# Altium footprint library SN74AVC20T245DGV.PcbLib: 3 footprints
Each footprint in its own frame and in the unit in brackets; x right, y up, seen from the top. Pads: shape width x height; smd on the part's side, far side on the other; paste and mask are expansions set on the pad; w line width, h text height; cw(c..) or ccw(c..) is an arc to the next point about the centre after c.
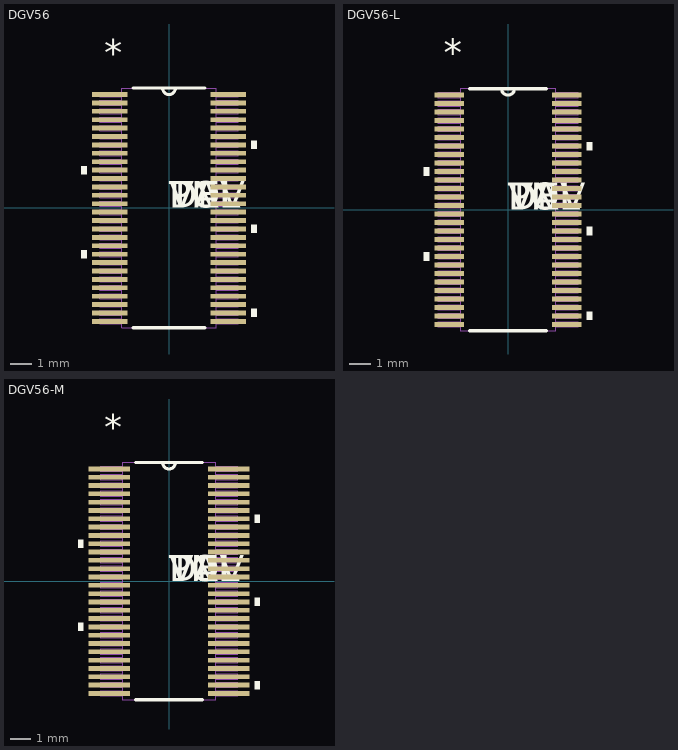
[diagram p0: the footprints below, top view; thin cyan lines are the x and y axes]

## DGV56 [mil]
pads (56):
  rect 66x9 smd: 1(-111,212.6) 2(-111,196.85) 3(-111,181.1) 4(-111,165.35) 5(-111,149.61) 6(-111,133.86) 7(-111,118.11) 8(-111,102.36) 9(-111,86.61) 10(-111,70.87) 11(-111,55.12) 12(-111,39.37) 13(-111,23.62) 14(-111,7.87) 15(-111,-7.87) 16(-111,-23.62) 17(-111,-39.37) 18(-111,-55.12) 19(-111,-70.87) 20(-111,-86.61) 21(-111,-102.36) 22(-111,-118.11) 23(-111,-133.86) 24(-111,-149.61) 25(-111,-165.35) 26(-111,-181.1) 27(-111,-196.85) 28(-111,-212.6) 29(111,-212.6) 30(111,-196.85) 31(111,-181.1) 32(111,-165.35) 33(111,-149.61) 34(111,-133.86) 35(111,-118.11) 36(111,-102.36) 37(111,-86.61) 38(111,-70.87) 39(111,-55.12) 40(111,-39.37) 41(111,-23.62) 42(111,-7.87) 43(111,7.87) 44(111,23.62) 45(111,39.37) 46(111,55.12) 47(111,70.87) 48(111,86.61) 49(111,102.36) 50(111,118.11) 51(111,133.86) 52(111,149.61) 53(111,165.35) 54(111,181.1) 55(111,196.85) 56(111,212.6)
Top Overlay:
  region: 154,125.61 164,125.61 164,110.61 154,110.61
  region: 154,-31.87 164,-31.87 164,-46.87 154,-46.87
  region: 154,-189.35 164,-189.35 164,-204.35 154,-204.35
  region: -154,-79.11 -164,-79.11 -164,-94.11 -154,-94.11
  region: -154,78.37 -164,78.37 -164,63.37 -154,63.37
  lines w6: -67.19,-224.5 67.19,-224.5 ; -67.19,224.5 67.19,224.5 ; -12,224.5 ccw(c0,224.5) 12,224.5
  text "TOL" at 0,0 h50
  text "VAL" at 0,0 h50
  text "DEV" at 0,0 h50
  text "PN" at 0,0 h50
  text "*" at -121,266.6 h50
Mechanical 1:
  drawing of 229 lines, arcs and shapes, not listed
  text "RefDes2" at 0,0 h50
  text "*" at -121,266.6 h50

## DGV56-L [mil]
pads (56):
  rect 54x9 smd: 1(-109,212.6) 2(-109,196.85) 3(-109,181.1) 4(-109,165.35) 5(-109,149.61) 6(-109,133.86) 7(-109,118.11) 8(-109,102.36) 9(-109,86.61) 10(-109,70.87) 11(-109,55.12) 12(-109,39.37) 13(-109,23.62) 14(-109,7.87) 15(-109,-7.87) 16(-109,-23.62) 17(-109,-39.37) 18(-109,-55.12) 19(-109,-70.87) 20(-109,-86.61) 21(-109,-102.36) 22(-109,-118.11) 23(-109,-133.86) 24(-109,-149.61) 25(-109,-165.35) 26(-109,-181.1) 27(-109,-196.85) 28(-109,-212.6) 29(109,-212.6) 30(109,-196.85) 31(109,-181.1) 32(109,-165.35) 33(109,-149.61) 34(109,-133.86) 35(109,-118.11) 36(109,-102.36) 37(109,-86.61) 38(109,-70.87) 39(109,-55.12) 40(109,-39.37) 41(109,-23.62) 42(109,-7.87) 43(109,7.87) 44(109,23.62) 45(109,39.37) 46(109,55.12) 47(109,70.87) 48(109,86.61) 49(109,102.36) 50(109,118.11) 51(109,133.86) 52(109,149.61) 53(109,165.35) 54(109,181.1) 55(109,196.85) 56(109,212.6)
Top Overlay:
  region: -146,78.37 -156,78.37 -156,63.37 -146,63.37
  region: -146,-79.11 -156,-79.11 -156,-94.11 -146,-94.11
  region: 146,-189.35 156,-189.35 156,-204.35 146,-204.35
  region: 146,-31.87 156,-31.87 156,-46.87 146,-46.87
  region: 146,125.61 156,125.61 156,110.61 146,110.61
  lines w6: -71.19,-224.5 71.19,-224.5 ; -71.19,224.5 71.19,224.5 ; -12,224.5 ccw(c0,224.5) 12,224.5
  text "*" at -119,266.6 h50
  text "PN" at 0,0 h50
  text "DEV" at 0,0 h50
  text "VAL" at 0,0 h50
  text "TOL" at 0,0 h50
Mechanical 1:
  drawing of 229 lines, arcs and shapes, not listed
  text "*" at -119,266.6 h50
  text "RefDes2" at 0,0 h50

## DGV56-M [mil]
pads (56):
  rect 78x9 smd: 1(-113,212.6) 2(-113,196.85) 3(-113,181.1) 4(-113,165.35) 5(-113,149.61) 6(-113,133.86) 7(-113,118.11) 8(-113,102.36) 9(-113,86.61) 10(-113,70.87) 11(-113,55.12) 12(-113,39.37) 13(-113,23.62) 14(-113,7.87) 15(-113,-7.87) 16(-113,-23.62) 17(-113,-39.37) 18(-113,-55.12) 19(-113,-70.87) 20(-113,-86.61) 21(-113,-102.36) 22(-113,-118.11) 23(-113,-133.86) 24(-113,-149.61) 25(-113,-165.35) 26(-113,-181.1) 27(-113,-196.85) 28(-113,-212.6) 29(113,-212.6) 30(113,-196.85) 31(113,-181.1) 32(113,-165.35) 33(113,-149.61) 34(113,-133.86) 35(113,-118.11) 36(113,-102.36) 37(113,-86.61) 38(113,-70.87) 39(113,-55.12) 40(113,-39.37) 41(113,-23.62) 42(113,-7.87) 43(113,7.87) 44(113,23.62) 45(113,39.37) 46(113,55.12) 47(113,70.87) 48(113,86.61) 49(113,102.36) 50(113,118.11) 51(113,133.86) 52(113,149.61) 53(113,165.35) 54(113,181.1) 55(113,196.85) 56(113,212.6)
Top Overlay:
  region: -162,78.37 -172,78.37 -172,63.37 -162,63.37
  region: -162,-79.11 -172,-79.11 -172,-94.11 -162,-94.11
  region: 162,-189.35 172,-189.35 172,-204.35 162,-204.35
  region: 162,-31.87 172,-31.87 172,-46.87 162,-46.87
  region: 162,125.61 172,125.61 172,110.61 162,110.61
  lines w6: -63.19,-224.5 63.19,-224.5 ; -63.19,224.5 63.19,224.5 ; -12,224.5 ccw(c0,224.5) 12,224.5
  text "*" at -123,266.6 h50
  text "PN" at 0,0 h50
  text "DEV" at 0,0 h50
  text "VAL" at 0,0 h50
  text "TOL" at 0,0 h50
Mechanical 1:
  drawing of 229 lines, arcs and shapes, not listed
  text "*" at -123,266.6 h50
  text "RefDes2" at 0,0 h50